# Altium footprint library PcbLib1.PcbLib: 13 footprints
Each footprint in its own frame and in the unit in brackets; x right, y up, seen from the top. Pads: shape width x height; smd on the part's side, far side on the other; paste and mask are expansions set on the pad; w line width, h text height; cw(c..) or ccw(c..) is an arc to the next point about the centre after c.
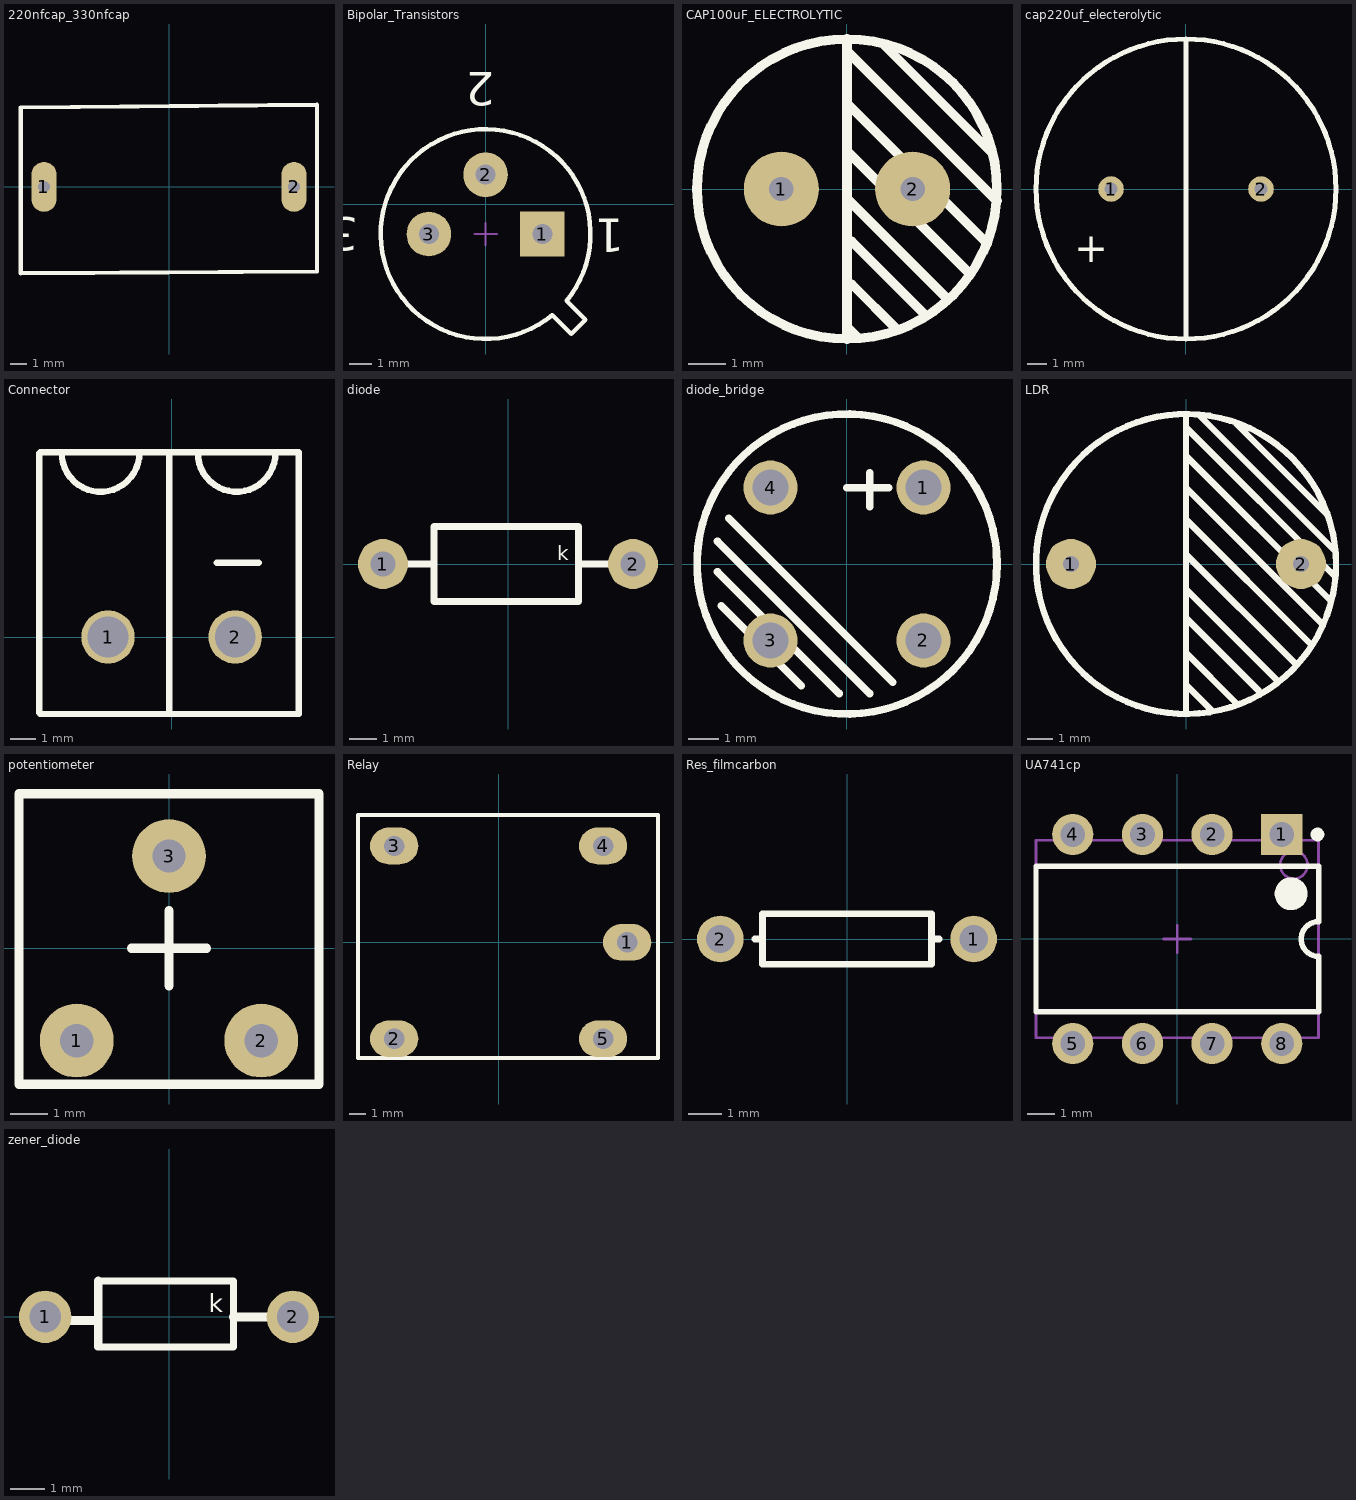
[diagram p0: the footprints below, top view; thin cyan lines are the x and y axes]

## 220nfcap_330nfcap [mm]
height 20
pads (2):
  oval 1.5x3 hole 0.7: 1(-7.5,0) 2(7.5,0)
Top Overlay:
  lines w0.254: 8.884,4.931 -8.895,4.765 -8.895,-5.189 8.885,-5.072 ; 8.885,-5.062 8.885,4.892

## Bipolar_Transistors [mm]
height 18
pads (3):
  rect 2x2 hole 0.9: 1(2.54,-1.33)
  round 2 hole 0.9: 2(0,1.33) 3(-2.54,-1.33)
Top Overlay:
  lines w0.2: 2.99,-4.956 cw(c0,-1.33) 3.626,-4.32 4.475,-5.168 3.838,-5.805 2.99,-4.956
  text "1" at 6.201,-0.633 h1.5
  text "2" at 0.415,5.908 h1.5
  text "3" at -5.694,-0.579 h1.5
Mechanical 15:
  lines w0.1: -0.5,-1.33 0.5,-1.33 ; 0,-1.83 0,-0.83

## CAP100uF_ELECTROLYTIC [mm]
height 20
pads (2):
  round 2 hole 0.65: 1(-1.75,0) 2(1.75,0)
Top Overlay:
  circle w0.254: c0,0 r4
  lines w0.254: 0,-3.937 0,3.937 ; 0,-3.683 0.254,-3.937 ; 0,0 0,-0.254 2.667,-2.921 ; 0,1.27 0,1.016 3.238,-2.222 ; 0,2.286 3.746,-1.46 ; 0,3.683 4,-0.318 ; 0.127,-2.54 1.333,-3.746 ; 0.127,-1.397 2.095,-3.365 ; 0.953,3.873 3.873,0.953

## cap220uf_electerolytic [mm]
height 20
pads (2):
  round 1.3 hole 0.65: 1(-3.8,0) 2(3.8,0)
Top Overlay:
  circle w0.254: c0,0 r7.6
  lines w0.254: 0,-7.493 0,7.493 ; 0,-3.175 0,-2.921 ; 0,-1.778 0,-1.651 ; 0,-0.508 0,0 ; 0,2.159 0,2.413
  text "+" at -3.937,-2.413 h1.5

## Connector [mm]
height 16
pads (2):
  round 2.1 hole 1.6: 1(-2.5,0) 2(2.5,0)
Top Overlay:
  lines w0.254: -5.197,-2.976 -5.197,7.224 ; -5.167,-3.028 4.993,-3.028 ; -5.167,7.259 4.993,7.259 4.993,-2.941 ; -4.323,7.239 ccw(c-2.794,7.239) -1.265,7.239 ; -0.087,-3.028 -0.087,7.259 ; 1.028,7.24 ccw(c2.557,7.24) 4.087,7.24 ; 1.778,2.921 3.429,2.921

## diode [mm]
height 5
pads (2):
  round 1.8 hole 0.9: 1(-4.5,0) 2(4.5,0)
Top Overlay:
  lines w0.254: -4.5,0 -2.66,0 ; 2.612,0 4.5,0 ; -2.66,-1.35 2.54,-1.35 2.54,1.35 -2.66,1.35 -2.66,-1.35
  text "k" at 1.778,0.127 h0.52

## diode_bridge [mm]
height 32
pads (4):
  round 1.8 hole 1.2: 1(2.55,2.55) 2(2.55,-2.55) 3(-2.55,-2.55) 4(-2.55,2.55)
Top Overlay:
  circle w0.254: c0,0 r5
  lines w0.254: -4.318,-0.254 -0.254,-4.318 ; -4.318,0.762 0.762,-4.318 ; -4.191,-1.397 -1.524,-4.064 ; -3.937,1.524 1.524,-3.937 ; 0,2.54 1.397,2.54 ; 0.762,1.905 0.762,3.048

## LDR [mm]
height 40
pads (2):
  round 2 hole 0.65: 1(-4.6,0) 2(4.6,0)
Top Overlay:
  circle w0.254: c0,0 r6
  lines w0.254: 0,-5.842 0,-5.921 0,5.969 ; 0,-4.826 1.016,-5.842 ; 0,-3.556 2.032,-5.588 ; 0,-2.032 0,-2.159 2.921,-5.08 ; 0,-0.889 0,-1.016 3.683,-4.699 ; 0,0.508 0,0.381 4.318,-3.937 ; 0,1.778 4.953,-3.175 ; 0,3.048 5.461,-2.413 ; 0,4.699 0,4.318 5.715,-1.397 ; 0,5.461 5.969,-0.508 ; 0.508,5.969 5.969,0.508 ; 2.032,5.588 5.588,2.032
3D body "User Library-LDR12mm.STEP": height 2.7, standoff -5, extent -6,-5.325 6,5.595

## potentiometer [mm]
height 9.85
pads (3):
  round 2 hole 0.9: 1(-2.5,-2.5) 2(2.5,-2.5) 3(0,2.5)
Top Overlay:
  lines w0.254: -1.016,0 1.016,0 ; 0,-1.016 0,1.016 ; -4.064,-3.683 -4.064,4.191 4.064,4.191 4.064,-3.683 -4.064,-3.683

## Relay [mm]
height 19.5
pads (5):
  oval 3x2.28 hole 1.27: 1(8,0) 5(6.5,-6)
  oval 3x2.286 hole 1.27: 2(-6.5,-6) 3(-6.5,6) 4(6.5,6)
Top Overlay:
  lines w0.254: -8.751,-7.193 9.918,-7.193 9.918,7.92 -8.751,7.92 -8.751,-7.193

## Res_filmcarbon [mm]
height 5
pads (2):
  round 1.4 hole 0.85: 1(3.81,0) 2(-3.81,0)
Top Overlay:
  lines w0.2: -2.769,0 -2.54,0 ; 2.54,0 2.769,0 ; -2.54,0 -2.54,-0.762 2.54,-0.762 2.54,0.762 -2.54,0.762 -2.54,0

## UA741cp [mm]
height 8
pads (8):
  rect 1.5x1.5 hole 0.9: 1(3.81,3.81)
  round 1.5 hole 0.9: 2(1.27,3.81) 3(-1.27,3.81) 4(-3.81,3.81) 5(-3.81,-3.81) 6(-1.27,-3.81) 7(1.27,-3.81) 8(3.81,-3.81)
Top Overlay:
  circle w0.6: c4.15,1.65 r0.3
  circle w0.25: c5.11,3.81 r0.125
  lines w0.2: -5.15,-2.65 -5.15,2.65 5.15,2.65 5.15,0.635 ccw(c5.15,0) 5.15,-0.635 5.15,-2.65 -5.15,-2.65
Mechanical 13:
  circle w0.1: c4.25,2.7 r0.5
  lines w0.1: -5.15,-3.6 -5.15,3.6 5.15,3.6 5.15,-3.6 -5.15,-3.6
Mechanical 15:
  lines w0.1: -0.5,0 0.5,0 ; 0,-0.5 0,0.5
3D body: height 5.34, standoff 0, extent -5.15,-3.6 5.15,3.6

## zener_diode [mm]
height 5
pads (2):
  round 1.5 hole 0.9: 1(-3.556,0) 2(3.556,0)
Top Overlay:
  lines w0.2: -2.051,-0.868 1.849,-0.868 1.849,1.032 -2.032,1.032
  lines w0.254: -3.429,-0.107 -2.159,-0.107 ; -2.032,-0.818 -2.032,1.032 ; 1.849,0 3.556,0
  text "k" at 1.143,0.127 h0.52